# Altium schematic symbol library X322524MSB4SI.SchLib: 1 symbol
Pins are listed as number, name and electrical type; pins without a type are passive.

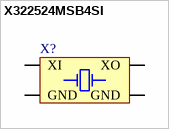
[diagram p0: symbol X322524MSB4SI]

## X322524MSB4SI
designator X?
pins: 1 XI, 2 GND, 3 XO, 4 GND